# Altium schematic symbol library CustomComponents.SchLib: 107 symbols (part 1 of 2)
Pins are listed as number, name and electrical type; pins without a type are passive.

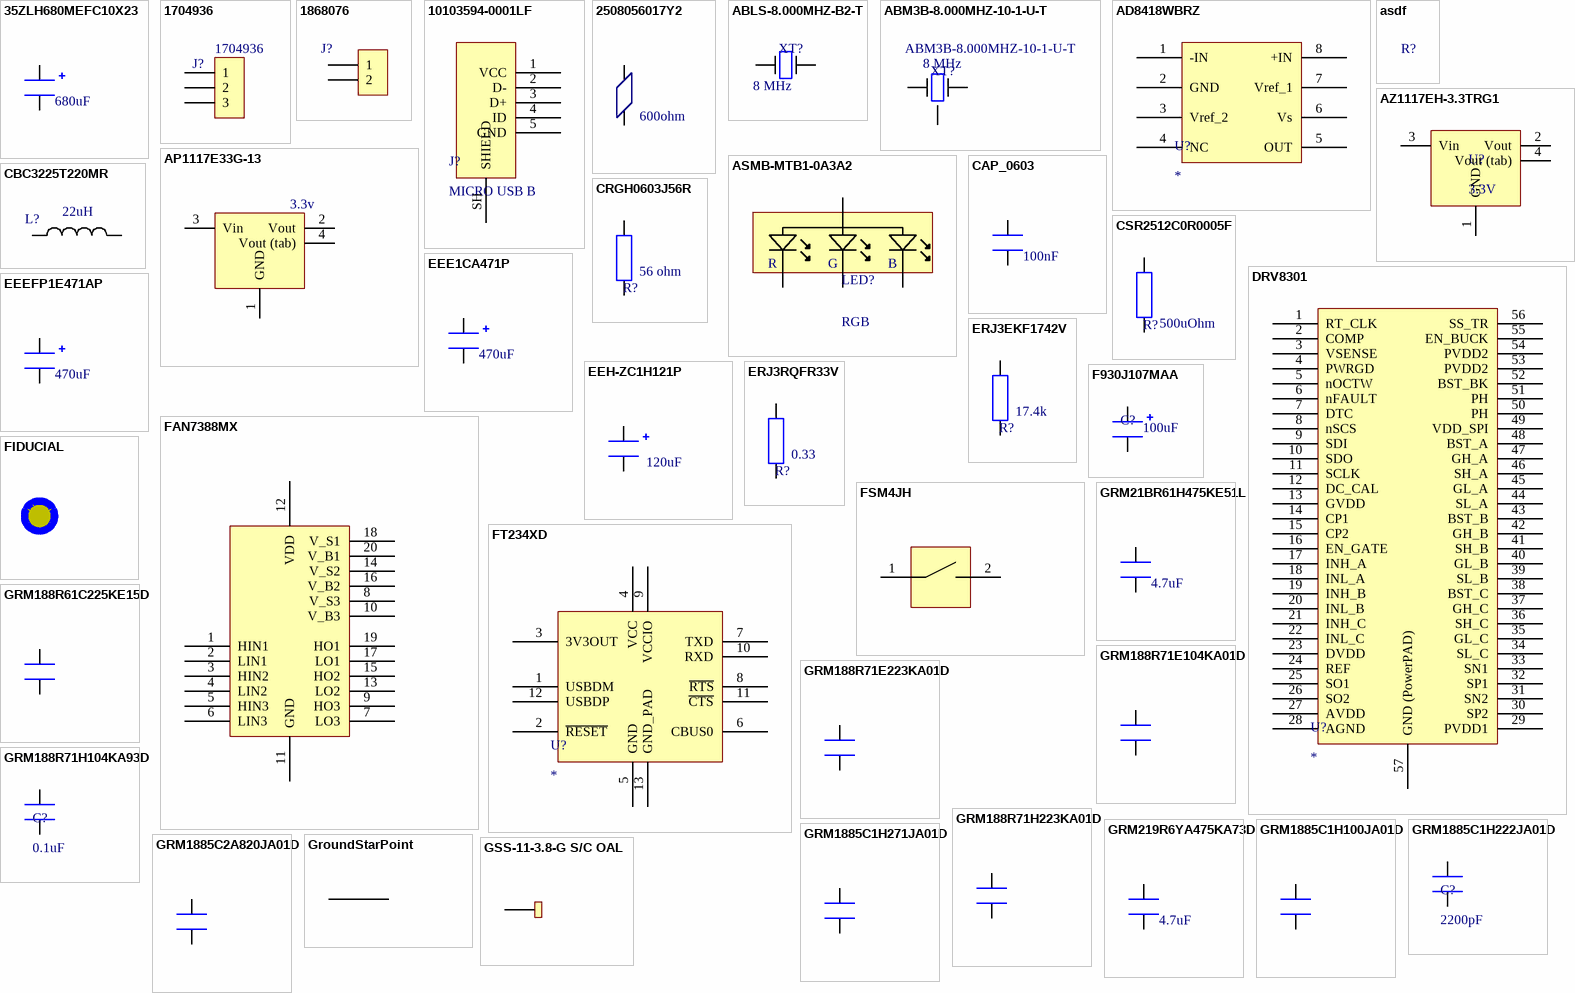
[diagram p0: symbols 35ZLH680MEFC10X23 to GSS-11-3.8-G S/C OAL]

## 35ZLH680MEFC10X23
designator C?  value 680uF
CAP, ALU ELEC, 680UF, 35V, RAD; Supplier 1: Farnell; Supplier Part Number 1: 8126771
footprint CAPE10.0MM_Rad_10x14mm (10mm Pitch Radial Capacitor 10x14mm DxH)
pins: 1, 2

## 1704936
designator J?  Manufacturer Part Number: 1704936  (hidden comment: *)
CONN TERM BLOCK 3POS 7.62MM; Manufacturer: Phoenix Contact; Number of Levels: 1; Positions Per Level: 3; Pitch: 0.300" (7.62mm); Mating Orientation: Horizontal with Board; Current: 30A; Voltage: 300V; Wire Gauge: 10-30 AWG; Wire Termination: Screw - Rising Cage Clamp; Torque - Screw: 0.5-0.6 Nm (4.4-5.3 Lb-In); Screw Thread: M3; Supplier 1: Digi-Key; Supplier Part Number 1: 277-5954-ND; RoHS: RoHS Compliant; Category: Connectors, Interconnects; Stock: 3559; Pricing 1: 1=2.19, 10=2.128, 50=1.989, 100=1.8299, 250=1.69064, 500=1.61108, 1000=1.482 (USD); Packaging: Bulk; Part Status: Active; Mounting Type: Through Hole; Features: Interlocking (Side); Color: Green; Operating Temperature: -; Housing Material: Polyamide (PA), Nylon; Contact Material - Plating: -; Clamp Material - Plating: -; Screw Material - Plating: -; ComponentLink1URL: http://media.digikey.com/PDF/Data%20Sheets/Phoenix%20Contact%20PDFs/1704936.pdf; ComponentLink1Description: http://media.digikey.com/PDF/Data%20Sheets/Phoenix%20Contact%20PDFs/1704936.pdf
footprint 1704936 (CONN TERM BLOCK 3POS 7.62MM)
pins: 1, 2, 3

## 1868076
designator J?  (value not drawn)
CONN TERM BLOCK 2POS 7.62MM; Manufacturer: Phoenix Contact; Number of Levels: 1; Positions Per Level: 2; Pitch: 0.300" (7.62mm); Mating Orientation: Horizontal with Board; Current: 30A; Voltage: 300V; Wire Gauge: 10-30 AWG; Wire Termination: Screw - Rising Cage Clamp; Torque - Screw: 0.5-0.6 Nm (4.4-5.3 Lb-In); Screw Thread: M3; Supplier 1: Digi-Key; Supplier Part Number 1: 277-5840-ND; RoHS: RoHS Compliant; Category: Connectors, Interconnects; Stock: 2175; Pricing 1: 1=1.56, 10=1.517, 50=1.4178, 100=1.3044, 250=1.20512, 500=1.14842, 1000=1.0564 (USD); Packaging: Bulk; Part Status: Active; Mounting Type: Through Hole; Features: Interlocking (Side); Color: Green; Operating Temperature: -; Housing Material: Polyamide (PA), Nylon; Contact Material - Plating: -; Clamp Material - Plating: -; Screw Material - Plating: -; ComponentLink1URL: http://media.digikey.com/PDF/Data%20Sheets/Phoenix%20Contact%20PDFs/1868076.pdf; ComponentLink1Description: http://media.digikey.com/PDF/Data%20Sheets/Phoenix%20Contact%20PDFs/1868076.pdf
footprint 1868076 (CONN TERM BLOCK 2POS 7.62MM)
pins: 1, 2

## 10103594-0001LF
designator J?, comment MICRO USB B
MICRO USB B, RECEPTACLE, SMT, RA, 5WAY; Supplier 1: Farnell; Supplier Part Number 1: 2293752
footprint USB_0103594-0001LF (Micro USB B connector)
pins: 1 VCC, 2 D-, 3 D+, 4 ID, 5 GND, SH SHIELD

## 2508056017Y2
designator L?  value 600ohm
FERRITE BEAD, 0.1OHM, 2A, 0805; Supplier 1: Farnell; Supplier 2: Farnell; Supplier Part Number 1: 1838838; Supplier Part Number 2: 1838838RL
footprint FBC2012N (Ferrite Bead Chip, Body 2.0x1.2mm, 0805, IPC Medium Density)
pins: 1, 2

## ABLS-8.000MHZ-B2-T
designator XT?  value 8 MHz  (hidden comment: *)
Crystal 8.0000MHz 20ppm 18pF 80 Ohm -20°C - 70°C Surface Mount HC49/US
footprint CRYSTAL_HC49-US-SM (SMD Crystal HC49/US-SM package)
pins: 1 IN, 2 OUT

## ABM3B-8.000MHZ-10-1-U-T
designator XT?  value 8 MHz  Manufacturer Part Number: ABM3B-8.000MHZ-10-1-U-T  (hidden comment: *)
Crystal 8MHz ±10ppm 10pF 200 Ohm -10°C ~ 60°C Surface Mount 4-SMD, No Lead (DFN, LCC); Manufacturer: Abracon LLC; Operating Mode: Fundamental; Supplier 1: Digi-Key; Supplier Part Number 1: 535-9721-1-ND; RoHS: RoHS Compliant; Category: Crystals, Oscillators, Resonators; Stock: 35437; Pricing 1: 1=0.69, 10=0.578, 50=0.5198, 100=0.462, 500=0.4389 (USD); Packaging: Cut Tape (CT); Part Status: Active; Type: MHz Crystal; Frequency Stability: ±10ppm; Frequency Tolerance: ±10ppm; Load Capacitance: 10pF; Operating Temperature: -10°C ~ 60°C; Ratings: -; Mounting Type: Surface Mount; Package / Case: 4-SMD, No Lead; Size / Dimension: 0.197" L x 0.126" W (5.00mm x 3.20mm); Height - Seated (Max): 0.043" (1.10mm); ComponentLink1URL: http://www.abracon.com/Resonators/abm3b.pdf; ComponentLink1Description: http://www.abracon.com/Resonators/abm3b.pdf; Supplier 2: Digi-Key; Supplier Part Number 2: 535-9721-2-ND; Pricing 2: 1000=0.336, 3000=0.315, 5000=0.3045, 10000=0.294 (USD)
footprint DFN220P320X110-4N (DFN, 4-Leads, Body 5.00x3.20mm, Pitch 2.20mm, IPC Medium Density)
pins: 1, 3, G

## AD8418WBRZ
designator U?
ANALOG DEVICES Current Sense Amplifier, Bidirectional, 1, 130 µA, NSOIC
footprint SOIC127P600X175-8N (SOIC, 8-Leads, Body 4.90x3.90mm, Pitch 1.27mm, IPC Medium Density)
pins: 1 -IN, 2 GND, 3 Vref_2, 4 NC, 5 OUT, 6 Vs, 7 Vref_1, 8 +IN

## AP1117E33G-13
designator U?  value 3.3v
IC, LDO, REG, 3.3V, SOT223; Supplier 1: Farnell; Supplier 2: Farnell; Supplier Part Number 1: 1825291RL; Supplier Part Number 2: 1825291
footprint SOT223 (SOT223 /SC-73)
pins: 1 GND, 2 Vout, 3 Vin, 4 Vout (tab)

## asdf
designator R?
Supplier 1: Digi-Key; Supplier Part Number 1: 311-1.00KHRCT-ND

## ASMB-MTB1-0A3A2
designator LED?, comment RGB
LED, HB, RGB, 0.09W, PLCC-4; Supplier 1: Farnell; Supplier Part Number 1: 2401106
footprint ASMB-MTB1
pins: 1 R, 2 G, 3 B, 4 A

## AZ1117EH-3.3TRG1
designator U?, comment 3.3V
IC REG LDO 3.3V 1A SOT223; Manufacturer: Diodes Incorporated; Regulator Topology: Positive Fixed; Voltage - Dropout (Typical): 1.1V @ 1A; Voltage - Input: Up to 13V; Supplier 1: Digi-Key; Supplier Part Number 1: AZ1117EH-3.3TRG1DICT-ND; RoHS: RoHS Compliant; Category: Integrated Circuits (ICs); Stock 1: 22748; Pricing 1: 1=0.43, 10=0.321, 100=0.1815, 500=0.12022, 1000=0.09216 (USD); Packaging: Cut Tape (CT); Part Status: Active; Voltage - Output: 3.3V; Current - Output: 1A; Current - Limit (Min): -; Operating Temperature: -40°C ~ 125°C; Mounting Type: Surface Mount; Package / Case: TO-261-4, TO-261AA; Supplier Device Package: SOT-223; ComponentLink1URL: http://www.diodes.com/assets/Datasheets/AZ1117E.pdf; ComponentLink1Description: http://www.diodes.com/assets/Datasheets/AZ1117E.pdf
footprint SOT223 (SOT223 /SC-73)
pins: 1 GND, 2 Vout, 3 Vin, 4 Vout (tab)

## CAP_0603
designator C?, comment value 100nF  (hidden comment: General 0603 capacitor)
CAP General 0603
footprint 1608[0603] (Chip Capacitor, Body 1.6x0.8mm, IPC High Density)
pins: 1, 2

## CBC3225T220MR
designator L?  value 22uH  (hidden comment: CBC3225T220MR)
Inductor 22uH, 780 ma, 351 mohm, 1210; Supplier 1: Digi-Key; Supplier Part Number 1: 587-1626-1-ND; Supplier 2: Mouser; Supplier Part Number 2: 963-CBC3225T220MR; Supplier 3: Farnell; Supplier Part Number 3: 2309152
pins: 1, 2

## CRGH0603J56R
designator R?  value 56 ohm
RESISTOR, POWER, 56R, 0.2W, 5%, 0603; Supplier 1: Farnell; Supplier 2: Farnell; Supplier Part Number 1: 2331709; Supplier Part Number 2: 2331709RL
footprint RESC1608X55N (Chip Resistor, Body 1.6x0.8mm, EIA 0603, IPC Medium Density)
pins: 1 0, 2 0

## CSR2512C0R0005F
designator R?  value 500uOhm  (hidden comment: CSR2512C0R0005F)
RES SMD 0.0005 OHM 1% 3W 2512; Manufacturer: Riedon; Temperature Coefficient: ±100ppm/°C; Supplier 1: Digi-Key; Supplier Part Number 1: 696-1183-2-ND; RoHS: RoHS Compliant; Category: Resistors; Stock: 2000; Pricing 1: 2000=0.19817, 6000=0.1937, 10000=0.187, 50000=0.18148 (USD); Packaging: Tape & Reel (TR); Part Status: Active; Tolerance: ±1%; Power (Watts): 3W; Composition: Metal Element; Features: Current Sense; Operating Temperature: -55°C ~ 170°C; Package / Case: 2512 (6432 Metric); Supplier Device Package: 2512; Size / Dimension: 0.250" L x 0.118" W (6.35mm x 3.00mm); Height - Seated (Max): 0.057" (1.45mm); Failure Rate: -; ComponentLink1URL: http://riedon.com/media/pdf/CSR.pdf; ComponentLink1Description: http://riedon.com/media/pdf/CSR.pdf; Supplier 2: Digi-Key; Supplier Part Number 2: 696-1183-1-ND; Pricing 2: 1=0.69, 10=0.574, 25=0.4916, 50=0.4426, 100=0.3852, 250=0.3442, 500=0.27864, 1000=0.22536 (USD); Manufacturer Part Number: CSR2512C0R0005F
footprint RESC6432X09N (Chip Resistor, 2-Leads, Body 6.40x3.20mm, IPC Medium Density)
pins: 1 0, 2 0

## DRV8301
designator U?
MOTOR DRIVER, 3PH, 56HTSSOP
footprint TSSOP50P810X120_HS-57N (TSSOP, 56-Leads, Body 14.00x6.10mm, Pitch 0.50mm, Thermal Pad 6.35x3.61mm, IPC Medium Density)
pins: 1 RT_CLK, 2 COMP, 3 VSENSE, 4 PWRGD, 5 nOCTW, 6 nFAULT, 7 DTC, 8 nSCS, 9 SDI, 10 SDO, 11 SCLK, 12 DC_CAL, 13 GVDD, 14 CP1, 15 CP2, 16 EN_GATE, 17 INH_A, 18 INL_A, 19 INH_B, 20 INL_B, 21 INH_C, 22 INL_C, 23 DVDD, 24 REF, 25 SO1, 26 SO2, 27 AVDD, 28 AGND, 29 PVDD1, 30 SP2, 31 SN2, 32 SP1, 33 SN1, 34 SL_C, 35 GL_C, 36 SH_C, 37 GH_C, 38 BST_C, 39 SL_B, 40 GL_B, 41 SH_B, 42 GH_B, 43 BST_B, 44 SL_A, 45 GL_A, 46 SH_A, 47 GH_A, 48 BST_A, 49 VDD_SPI, 50 PH, 51 PH, 52 BST_BK, 53 PVDD2, 54 PVDD2, 55 EN_BUCK, 56 SS_TR, 57 GND (PowerPAD)

## EEE1CA471P
designator C?  value 470uF
CAP, ALU ELEC, 470UF, 16V, SMD; Supplier 1: Farnell; Supplier Part Number 1: 2326123RL; Supplier 2: Farnell; Supplier Part Number 2: 2326123
simulation model CAP (Capacitor)
signal-integrity model Cap
footprint CAP_ELEC_SIZE_G (Capacitor, polarized, aluminum can; 10.0x10.2mm DxH)
pins: 1, 2

## EEEFP1E471AP
designator C?  value 470uF
CAP, FP Series, 470 µF, 25 V, Radial Can - SMD, 10 mm; Manufacturer: Panasonic Electronic Components; Manufacturer Part Number: EEE-FP1E471AP; Tolerance: ±20%; ESR (Equivalent Series Resistance): 60 mOhm @ 100kHz; Lifetime @ Temp.: 2000 Hrs @ 105°C; Polarization: Polar; Ripple Current - Low Frequency: 773.5mA @ 120Hz; Ripple Current - High Frequency: 1.19A @ 100kHz; Surface Mount Land Size: 0.406" L x 0.406" W (10.30mm x 10.30mm); Supplier 1: Digi-Key; Supplier Part Number 1: PCE4440TR-ND; RoHS: RoHS Compliant; Category: Capacitors; Stock: 8000; Pricing 1: 500=0.3571, 1000=0.30072, 2500=0.28192, 5000=0.26313, 12500=0.24997, 25000=0.24434 (USD); Packaging: Tape & Reel (TR); Part Status: Active; Operating Temperature: -55°C ~ 105°C; Applications: Automotive; Lead Spacing: -; Size / Dimension: 0.394" Dia (10.00mm); Height - Seated (Max): 0.402" (10.20mm); Mounting Type: Surface Mount; Package / Case: Radial, Can - SMD; ComponentLink1URL: http://industrial.panasonic.com/www-cgi/jvcr13pz.cgi?E+PZ+3+ABA0114+EEEFP1E471AP+7+WW; ComponentLink1Description: http://industrial.panasonic.com/www-cgi/jvcr13pz.cgi?E+PZ+3+ABA0114+EEEFP1E471AP+7+WW; Supplier 2: Digi-Key; Supplier Part Number 2: PCE4440CT-ND; Pricing 2: 1=0.92, 10=0.702, 100=0.5025 (USD)
footprint CAP_ELEC_SIZE_G (Capacitor, polarized, aluminum can; 10.0x10.2mm DxH)
pins: 1, 2

## EEH-ZC1H121P
designator C?, comment 120uF
CAP ALUM POLY HYB 120UF 50V SMD; Manufacturer: Panasonic Electronic Components; Manufacturer Part Number: EEH-ZC1H121P; Type: Hybrid; Tolerance: ±20%; ESR (Equivalent Series Resistance): 28 mOhm; Lifetime @ Temp.: 4000 Hrs @ 125°C; Ripple Current - Low Frequency: 240mA @ 100Hz; Ripple Current - High Frequency: 1.6A @ 100kHz; Surface Mount Land Size: 0.406" L x 0.406" W (10.30mm x 10.30mm); Supplier 1: Digi-Key; Supplier Part Number 1: P19316CT-ND; RoHS: RoHS Compliant; Category: Capacitors; Stock: 1939; Pricing 1: 1=2.18, 10=1.761, 100=1.345 (USD); Packaging: Cut Tape (CT); Part Status: Active; Operating Temperature: -55°C ~ 125°C; Applications: Automotive; Lead Spacing: -; Size / Dimension: 0.394" Dia (10.00mm); Height - Seated (Max): 0.413" (10.50mm); Mounting Type: Surface Mount; Package / Case: Radial, Can - SMD; ComponentLink1URL: https://industrial.panasonic.com/cdbs/www-data/pdf/RDD0000/ABA0000C1234.pdf; ComponentLink1Description: https://industrial.panasonic.com/cdbs/www-data/pdf/RDD0000/ABA0000C1234.pdf; Supplier 2: Digi-Key; Supplier Part Number 2: P19316TR-ND; Pricing 2: 500=0.89108, 1000=0.77969, 2500=0.75184, 5000=0.724, 12500=0.72134 (USD); Capacitance: 120uF
footprint CAP_ELEC_SIZE_G (Capacitor, polarized, aluminum can; 10.0x10.2mm DxH)
pins: 1, 2

## ERJ3EKF1742V
designator R?  value 17.4k
RESISTOR, 0603, 17K4 1%, 0.1W; Supplier 1: Farnell; Supplier 2: Farnell; Supplier Part Number 1: 2059427RL; Supplier Part Number 2: 2059427
footprint RESC1608X55N (Chip Resistor, Body 1.6x0.8mm, EIA 0603, IPC Medium Density)
pins: 1 0, 2 0

## ERJ3RQFR33V
designator R?  value 0.33
RESISTOR, 0603, 0.1W, 1%, 0R33; Supplier 1: Farnell; Supplier Part Number 1: 1717766RL; Supplier 2: Farnell; Supplier Part Number 2: 1717766
footprint RESC1608X55N (Chip Resistor, Body 1.6x0.8mm, EIA 0603, IPC Medium Density)
pins: 1 0, 2 0

## F930J107MAA
designator C?  value 100uF  (hidden comment: F930J107MAA)
CAP TANT 100UF 6.3V 20% 1206 2Ohm
footprint CAP_POL_1206 (Chip Capacitor, 2-Leads, Body 3.20x1.60mm, IPC Medium Density)
pins: 1, 2

## FAN7388MX
designator U?
MOSFET DRIVER, 3 HALF BRIDGE; Supplier 1: Farnell; Supplier Part Number 1: 2083876
footprint SOIC_20
pins: 1 HIN1, 2 LIN1, 3 HIN2, 4 LIN2, 5 HIN3, 6 LIN3, 7 LO3, 8 V_S3, 9 HO3, 10 V_B3, 11 GND, 12 VDD, 13 LO2, 14 V_S2, 15 HO2, 16 V_B2, 17 LO1, 18 V_S1, 19 HO1, 20 V_B1

## FIDUCIAL
designator FID?
1mm Fiducial with 2mm soldermask, 3mm keepout
footprint FIDUCIAL (1mm fiducial with 3mm keepout)

## FSM4JH
designator SW?
SWITCH, SPNO, 0.05A; Supplier 1: Farnell; Supplier Part Number 1: 1555982
footprint FSM4JH (SWITCH, SPNO, 0.05A)
pins: 1, 2

## FT234XD
designator U?
Supplier 1: Farnell; Supplier Part Number 1: 2419911
footprint SON45P300X90_HS-13N (SON, 12-Leads, Body 3.00x3.00mm, Pitch 0.45mm, Thermal Pad 2.48x1.58mm, IPC Medium Density)
pins: 1 USBDM, 2 ~{RESET}, 3 3V3OUT, 4 VCC, 5 GND, 6 CBUS0, 7 TXD, 8 ~{RTS}, 9 VCCIO, 10 RXD, 11 ~{CTS}, 12 USBDP, 13 GND_PAD

## GRM21BR61H475KE51L
designator C?  value 4.7uF  (hidden comment: *)
CAP CER 4.7UF 50V X5R 0805; Manufacturer: Murata Electronics North America; Manufacturer Part Number: GRM21BR61H475KE51L; Tolerance: ±10%; Supplier 1: Digi-Key; Supplier Part Number 1: 490-10751-2-ND; RoHS: RoHS Compliant; Category: Capacitors; Stock: 15000; Pricing 1: 3000=0.08404, 6000=0.07774, 9000=0.07354 (USD); Packaging: Tape & Reel (TR); Part Status: Active; Voltage - Rated: 50V; Temperature Coefficient: X5R; Operating Temperature: -55°C ~ 85°C; Features: -; Ratings: -; Applications: General Purpose; Mounting Type: Surface Mount, MLCC; Package / Case: 0805 (2012 Metric); Size / Dimension: 0.079" L x 0.049" W (2.00mm x 1.25mm); Height - Seated (Max): -; Thickness (Max): 0.055" (1.40mm); Lead Spacing: -; Lead Style: -; ComponentLink1URL: http://search.murata.co.jp/Ceramy/image/img/A01X/G101/ENG/GRM21BR61H475KE51-01.pdf; ComponentLink1Description: http://search.murata.co.jp/Ceramy/image/img/A01X/G101/ENG/GRM21BR61H475KE51-01.pdf; Supplier 2: Digi-Key; Supplier Part Number 2: 490-10751-1-ND; Pricing 2: 1=0.35, 10=0.242, 100=0.145, 500=0.10872, 1000=0.09181 (USD)
footprint CAPC2012X09N (Chip Capacitor, 2-Leads, Body 2.00x1.25mm, IPC Medium Density)
pins: 1, 2

## GRM188R61C225KE15D
designator C?, comment 2.2µF
CAP CER 2.2UF 16V X5R 0603; Manufacturer: Murata Electronics North America; Manufacturer Part Number: GRM188R61C225KE15D; Tolerance: ±10%; Supplier 1: Digi-Key; Supplier Part Number 1: 490-3296-1-ND; RoHS: RoHS Compliant; Category: Capacitors; Stock 1: 1255740; Pricing 1: 1=0.12, 10=0.08, 50=0.046, 100=0.038, 250=0.032, 500=0.0268, 1000=0.022 (USD); Packaging: Cut Tape (CT); Capacitance: 2.2µF; Voltage - Rated: 16V; Temperature Coefficient: X5R; Mounting Type: Surface Mount, MLCC; Operating Temperature: -55°C ~ 85°C; Applications: General Purpose; Ratings: -; Package / Case: 0603 (1608 Metric); Size / Dimension: 0.063" L x 0.031" W (1.60mm x 0.80mm); Height - Seated (Max): -; Thickness (Max): 0.035" (0.90mm); Lead Spacing: -; Features: -; Lead Style: -; ComponentLink1URL: http://www.murata.com/~/media/webrenewal/support/library/catalog/products/capacitor/mlcc/c02e.pdf; ComponentLink1Description: http://www.murata.com/~/media/webrenewal/support/library/catalog/products/capacitor/mlcc/c02e.pdf
footprint CAPC1608X09L (Chip Capacitor, 2-Leads, Body 1.60x0.80mm, IPC High Density)
pins: 1, 2

## GRM188R71E104KA01D
designator C?, comment 0.10µF
CAP CER 0.1UF 25V X7R 0603; Manufacturer: Murata Electronics North America; Manufacturer Part Number: GRM188R71E104KA01D; Tolerance: ±10%; Supplier 1: Digi-Key; Supplier Part Number 1: 490-1524-1-ND; RoHS: RoHS Compliant; Category: Capacitors; Stock 1: 1667481; Pricing 1: 1=0.1, 10=0.019, 50=0.0104, 100=0.0088, 250=0.0072, 500=0.00616, 1000=0.0048 (USD); Packaging: Cut Tape (CT); Capacitance: 0.10µF; Voltage - Rated: 25V; Temperature Coefficient: X7R; Mounting Type: Surface Mount, MLCC; Operating Temperature: -55°C ~ 125°C; Applications: General Purpose; Ratings: -; Package / Case: 0603 (1608 Metric); Size / Dimension: 0.063" L x 0.031" W (1.60mm x 0.80mm); Height - Seated (Max): -; Thickness (Max): 0.035" (0.90mm); Lead Spacing: -; Features: -; Lead Style: -; ComponentLink1URL: http://www.murata.com/~/media/webrenewal/support/library/catalog/products/capacitor/mlcc/c02e.pdf; ComponentLink1Description: http://www.murata.com/~/media/webrenewal/support/library/catalog/products/capacitor/mlcc/c02e.pdf; Supplier 2: Digi-Key; Supplier Part Number 2: 490-1519-1-ND; Stock: 19859736; Pricing 2: 1=0.12, 10=0.084, 100=0.0396, 500=0.02778, 1000=0.023 (USD); Part Status: Active; ComponentLink2URL: http://www.murata.com/~/media/webrenewal/support/library/catalog/products/capacitor/mlcc/c02e.ashx?la=en-us; ComponentLink2Description: http://www.murata.com/~/media/webrenewal/support/library/catalog/products/capacitor/mlcc/c02e.ashx?la=en-us
footprint CAPC1608X09L (Chip Capacitor, 2-Leads, Body 1.60x0.80mm, IPC High Density)
pins: 1, 2

## GRM188R71E223KA01D
designator C?, comment 0.022µF
CAP CER 0.022UF 25V X7R 0603; Manufacturer: Murata Electronics North America; Manufacturer Part Number: GRM188R71E223KA01D; Tolerance: ±10%; Supplier 1: Digi-Key; Supplier Part Number 1: 490-9761-1-ND; RoHS: RoHS Compliant; Category: Capacitors; Stock 1: 26666; Pricing 1: 1=0.1, 10=0.061, 50=0.0332, 100=0.0281, 250=0.02296, 500=0.01964, 1000=0.0153 (USD); Packaging: Cut Tape (CT); Capacitance: 0.022µF; Voltage - Rated: 25V; Temperature Coefficient: X7R; Mounting Type: Surface Mount, MLCC; Operating Temperature: -55°C ~ 125°C; Applications: General Purpose; Ratings: -; Package / Case: 0603 (1608 Metric); Size / Dimension: 0.063" L x 0.031" W (1.60mm x 0.80mm); Height - Seated (Max): -; Thickness (Max): 0.035" (0.90mm); Lead Spacing: -; Features: -; Lead Style: -; ComponentLink1URL: http://www.murata.com/~/media/webrenewal/support/library/catalog/products/capacitor/mlcc/c02e.pdf; ComponentLink1Description: http://www.murata.com/~/media/webrenewal/support/library/catalog/products/capacitor/mlcc/c02e.pdf
footprint CAPC1608X09L (Chip Capacitor, 2-Leads, Body 1.60x0.80mm, IPC High Density)
pins: 1, 2

## GRM188R71H104KA93D
designator C?, comment 0.1uF
CAP CER 0.1UF 50V X7R 0603; Manufacturer: Murata Electronics North America; Manufacturer Part Number: GRM188R71H104KA93D; Tolerance: ±10%; Supplier 1: Digi-Key; Supplier Part Number 1: 490-1519-2-ND; RoHS: RoHS Compliant; Category: Capacitors; Stock: 19812000; Pricing 1: 4000=0.01822, 8000=0.01663, 12000=0.01584 (USD); Packaging: Tape & Reel (TR); Part Status: Active; Voltage - Rated: 50V; Temperature Coefficient: X7R; Operating Temperature: -55°C ~ 125°C; Features: -; Ratings: -; Applications: General Purpose; Mounting Type: Surface Mount, MLCC; Package / Case: 0603 (1608 Metric); Size / Dimension: 0.063" L x 0.032" W (1.60mm x 0.80mm); Height - Seated (Max): -; Thickness (Max): 0.035" (0.90mm); Lead Spacing: -; Lead Style: -; ComponentLink1URL: http://www.murata.com/~/media/webrenewal/support/library/catalog/products/capacitor/mlcc/c02e.ashx?la=en-us; ComponentLink1Description: http://www.murata.com/~/media/webrenewal/support/library/catalog/products/capacitor/mlcc/c02e.ashx?la=en-us; Supplier 2: Digi-Key; Supplier Part Number 2: 490-1519-1-ND; Pricing 2: 1=0.12, 10=0.084, 100=0.0396, 500=0.02778, 1000=0.023 (USD); Capacitance: 0.1uF
footprint CAPC1608X09L (Chip Capacitor, 2-Leads, Body 1.60x0.80mm, IPC High Density)
pins: 1, 2

## GRM188R71H223KA01D
designator C?, comment 0.022µF
CAP CER 0.022UF 50V X7R 0603; Manufacturer: Murata Electronics North America; Manufacturer Part Number: GRM188R71H223KA01D; Tolerance: ±10%; Capacitance: 0.022µF; Supplier 1: Digi-Key; Supplier Part Number 1: 490-1517-2-ND; RoHS: RoHS Compliant; Category: Capacitors; Stock: 608000; Pricing 1: 4000=0.01518, 8000=0.01386, 12000=0.0132 (USD); Packaging: Tape & Reel (TR); Part Status: Active; Voltage - Rated: 50V; Temperature Coefficient: X7R; Operating Temperature: -55°C ~ 125°C; Features: -; Ratings: -; Applications: General Purpose; Mounting Type: Surface Mount, MLCC; Package / Case: 0603 (1608 Metric); Size / Dimension: 0.063" L x 0.032" W (1.60mm x 0.80mm); Height - Seated (Max): -; Thickness (Max): 0.035" (0.90mm); Lead Spacing: -; Lead Style: -; ComponentLink1URL: http://search.murata.co.jp/Ceramy/image/img/A01X/G101/ENG/GRM188R71H223KA01-01.pdf; ComponentLink1Description: http://search.murata.co.jp/Ceramy/image/img/A01X/G101/ENG/GRM188R71H223KA01-01.pdf; Supplier 2: Digi-Key; Supplier Part Number 2: 490-1517-1-ND; Pricing 2: 1=0.11, 10=0.083, 100=0.0372, 500=0.02656, 1000=0.02087 (USD)
footprint CAPC1608X09L (Chip Capacitor, 2-Leads, Body 1.60x0.80mm, IPC High Density)
pins: 1, 2

## GRM219R6YA475KA73D
designator C?  value 4.7uF  (hidden comment: *)
CAP CER 4.7UF 35V X5R 0805; Manufacturer: Murata Electronics North America; Manufacturer Part Number: GRM219R6YA475KA73D; Tolerance: ±10%; Supplier 1: Digi-Key; Supplier Part Number 1: 490-7208-2-ND; RoHS: RoHS Compliant; Category: Capacitors; Stock: 152000; Pricing 1: 4000=0.05126, 8000=0.0487, 12000=0.04613 (USD); Packaging: Tape & Reel (TR); Part Status: Active; Voltage - Rated: 35V; Temperature Coefficient: X5R; Operating Temperature: -55°C ~ 85°C; Features: Derating Recommended; Ratings: -; Applications: General Purpose; Mounting Type: Surface Mount, MLCC; Package / Case: 0805 (2012 Metric); Size / Dimension: 0.079" L x 0.049" W (2.01mm x 1.25mm); Height - Seated (Max): -; Thickness (Max): 0.037" (0.95mm); Lead Spacing: -; Lead Style: -; ComponentLink1URL: http://www.murata.com/~/media/webrenewal/support/library/catalog/products/capacitor/mlcc/c02e.ashx?la=en-us; ComponentLink1Description: http://www.murata.com/~/media/webrenewal/support/library/catalog/products/capacitor/mlcc/c02e.ashx?la=en-us; Supplier 2: Digi-Key; Supplier Part Number 2: 490-7208-1-ND; Pricing 2: 1=0.26, 10=0.177, 100=0.1002, 500=0.07076, 1000=0.06191 (USD)
footprint CAPC2012X09N (Chip Capacitor, 2-Leads, Body 2.00x1.25mm, IPC Medium Density)
pins: 1, 2

## GRM1885C1H100JA01D
designator C?, comment 10pF
CAP CER 10PF 50V NP0 0603; Manufacturer: Murata Electronics North America; Manufacturer Part Number: GRM1885C1H100JA01D; Tolerance: ±5%; Temperature Coefficient: C0G, NP0; Supplier 1: Digi-Key; Supplier Part Number 1: 490-1403-1-ND; RoHS: RoHS Compliant; Category: Capacitors; Stock 1: 450321; Pricing 1: 1=0.1, 10=0.041, 50=0.0222, 100=0.0187, 250=0.01532, 500=0.0131, 1000=0.0102 (USD); Packaging: Cut Tape (CT); Capacitance: 10pF; Voltage - Rated: 50V; Mounting Type: Surface Mount, MLCC; Operating Temperature: -55°C ~ 125°C; Applications: General Purpose; Ratings: -; Package / Case: 0603 (1608 Metric); Size / Dimension: 0.063" L x 0.031" W (1.60mm x 0.80mm); Height - Seated (Max): -; Thickness (Max): 0.035" (0.90mm); Lead Spacing: -; Features: -; Lead Style: -; ComponentLink1URL: http://www.murata.com/~/media/webrenewal/support/library/catalog/products/capacitor/mlcc/c02e.pdf; ComponentLink1Description: http://www.murata.com/~/media/webrenewal/support/library/catalog/products/capacitor/mlcc/c02e.pdf
footprint CAPC1608X09L (Chip Capacitor, 2-Leads, Body 1.60x0.80mm, IPC High Density)
pins: 1, 2

## GRM1885C1H222JA01D
designator C?, comment 2200pF
CAP CER 2200PF 50V NP0 0603; Manufacturer: Murata Electronics North America; Tolerance: ±5%; Temperature Coefficient: C0G, NP0; Supplier 1: Digi-Key; Supplier Part Number 1: 490-1459-1-ND; RoHS: RoHS Compliant; Category: Capacitors; Stock 1: 850589; Pricing 1: 1=0.11, 10=0.08, 25=0.058, 50=0.0434, 100=0.0355, 250=0.02972, 500=0.02536, 1000=0.01992 (USD); Packaging: Cut Tape (CT); Part Status: Active; Capacitance: 2200pF; Voltage - Rated: 50V; Operating Temperature: -55°C ~ 125°C; Features: -; Ratings: -; Applications: General Purpose; Mounting Type: Surface Mount, MLCC; Package / Case: 0603 (1608 Metric); Size / Dimension: 0.063" L x 0.031" W (1.60mm x 0.80mm); Height - Seated (Max): -; Thickness (Max): 0.035" (0.90mm); Lead Spacing: -; Lead Style: -; ComponentLink1URL: http://www.murata.com/~/media/webrenewal/support/library/catalog/products/capacitor/mlcc/c02e.ashx; ComponentLink1Description: http://www.murata.com/~/media/webrenewal/support/library/catalog/products/capacitor/mlcc/c02e.ashx
footprint CAPC1608X09L (Chip Capacitor, 2-Leads, Body 1.60x0.80mm, IPC High Density)
pins: 1, 2

## GRM1885C1H271JA01D
designator C?, comment 270pF
CAP CER 270PF 50V NP0 0603; Manufacturer: Murata Electronics North America; Manufacturer Part Number: GRM1885C1H271JA01D; Tolerance: ±5%; Temperature Coefficient: C0G, NP0; Supplier 1: Digi-Key; Supplier Part Number 1: 490-1437-1-ND; RoHS: RoHS Compliant; Category: Capacitors; Stock 1: 46048; Pricing 1: 1=0.1, 10=0.048, 50=0.026, 100=0.022, 250=0.018, 500=0.0154, 1000=0.012 (USD); Packaging: Cut Tape (CT); Capacitance: 270pF; Voltage - Rated: 50V; Mounting Type: Surface Mount, MLCC; Operating Temperature: -55°C ~ 125°C; Applications: General Purpose; Ratings: -; Package / Case: 0603 (1608 Metric); Size / Dimension: 0.063" L x 0.031" W (1.60mm x 0.80mm); Height - Seated (Max): -; Thickness (Max): 0.035" (0.90mm); Lead Spacing: -; Features: -; Lead Style: -; ComponentLink1URL: http://www.murata.com/~/media/webrenewal/support/library/catalog/products/capacitor/mlcc/c02e.pdf; ComponentLink1Description: http://www.murata.com/~/media/webrenewal/support/library/catalog/products/capacitor/mlcc/c02e.pdf
footprint CAPC1608X09L (Chip Capacitor, 2-Leads, Body 1.60x0.80mm, IPC High Density)
pins: 1, 2

## GRM1885C2A820JA01D
designator C?, comment 82pF
CAP CER 82PF 100V NP0 0603; Manufacturer: Murata Electronics North America; Manufacturer Part Number: GRM1885C2A820JA01D; Tolerance: ±5%; Temperature Coefficient: C0G, NP0; Supplier 1: Digi-Key; Supplier Part Number 1: 490-1349-1-ND; RoHS: RoHS Compliant; Category: Capacitors; Stock 1: 58970; Pricing 1: 1=0.1, 10=0.052, 50=0.028, 100=0.0237, 250=0.01936, 500=0.01656, 1000=0.0129 (USD); Packaging: Cut Tape (CT); Capacitance: 82pF; Voltage - Rated: 100V; Mounting Type: Surface Mount, MLCC; Operating Temperature: -55°C ~ 125°C; Applications: General Purpose; Ratings: -; Package / Case: 0603 (1608 Metric); Size / Dimension: 0.063" L x 0.031" W (1.60mm x 0.80mm); Height - Seated (Max): -; Thickness (Max): 0.035" (0.90mm); Lead Spacing: -; Features: -; Lead Style: -; ComponentLink1URL: http://www.murata.com/~/media/webrenewal/support/library/catalog/products/capacitor/mlcc/c02e.pdf; ComponentLink1Description: http://www.murata.com/~/media/webrenewal/support/library/catalog/products/capacitor/mlcc/c02e.pdf
footprint CAPC1608X09L (Chip Capacitor, 2-Leads, Body 1.60x0.80mm, IPC High Density)
pins: 1, 2

## GroundStarPoint
designator SP?, comment Star Point  (net tie, no BOM)
Wide star point meant for joining ground planes
footprint StarpointWide (Wide star point meant for connecting ground planes)
pins: 1, 2

## GSS-11-3.8-G S/C OAL
designator TP?
Contact Probes 90 Degree Cone Shape; Manufacturer: Smiths Connectors / IDI; Manufacturer Part Number: GSS-11-3.8-G S/C OAL; Current Rating: 3 A; Resistance: 30 mOhms; Travel: 1.27 mm; Spring Force: 3.8 oz; Spring Material: Stainless Steel; Tip Style: Conical; Supplier 1: Mouser; Supplier Part Number 1: 818-GSS-11-3.8-G; RoHS: RoHS Compliant; Category: Contact Probes; Stock 1: 6036; Pricing 1: 1=0.900, 25=0.810, 50=0.790, 100=0.750, 200=0.658, 500=0.648 (USD); Length: 8.76 mm; Series: GSS; Type: Probes; Brand: Smiths Connectors / IDI; Standard Pack Qty: 100; RoHS - Mouser: Y; Minimum Order Quantity: 1; Reeling: False; ComponentLink1URL: http://www.mouser.com/ds/2/193/68_69-3197.pdf; ComponentLink1Description: http://www.mouser.com/ds/2/193/68_69-3197.pdf
footprint GSS-11-3.8-G (Contact Probe)
pins: 1

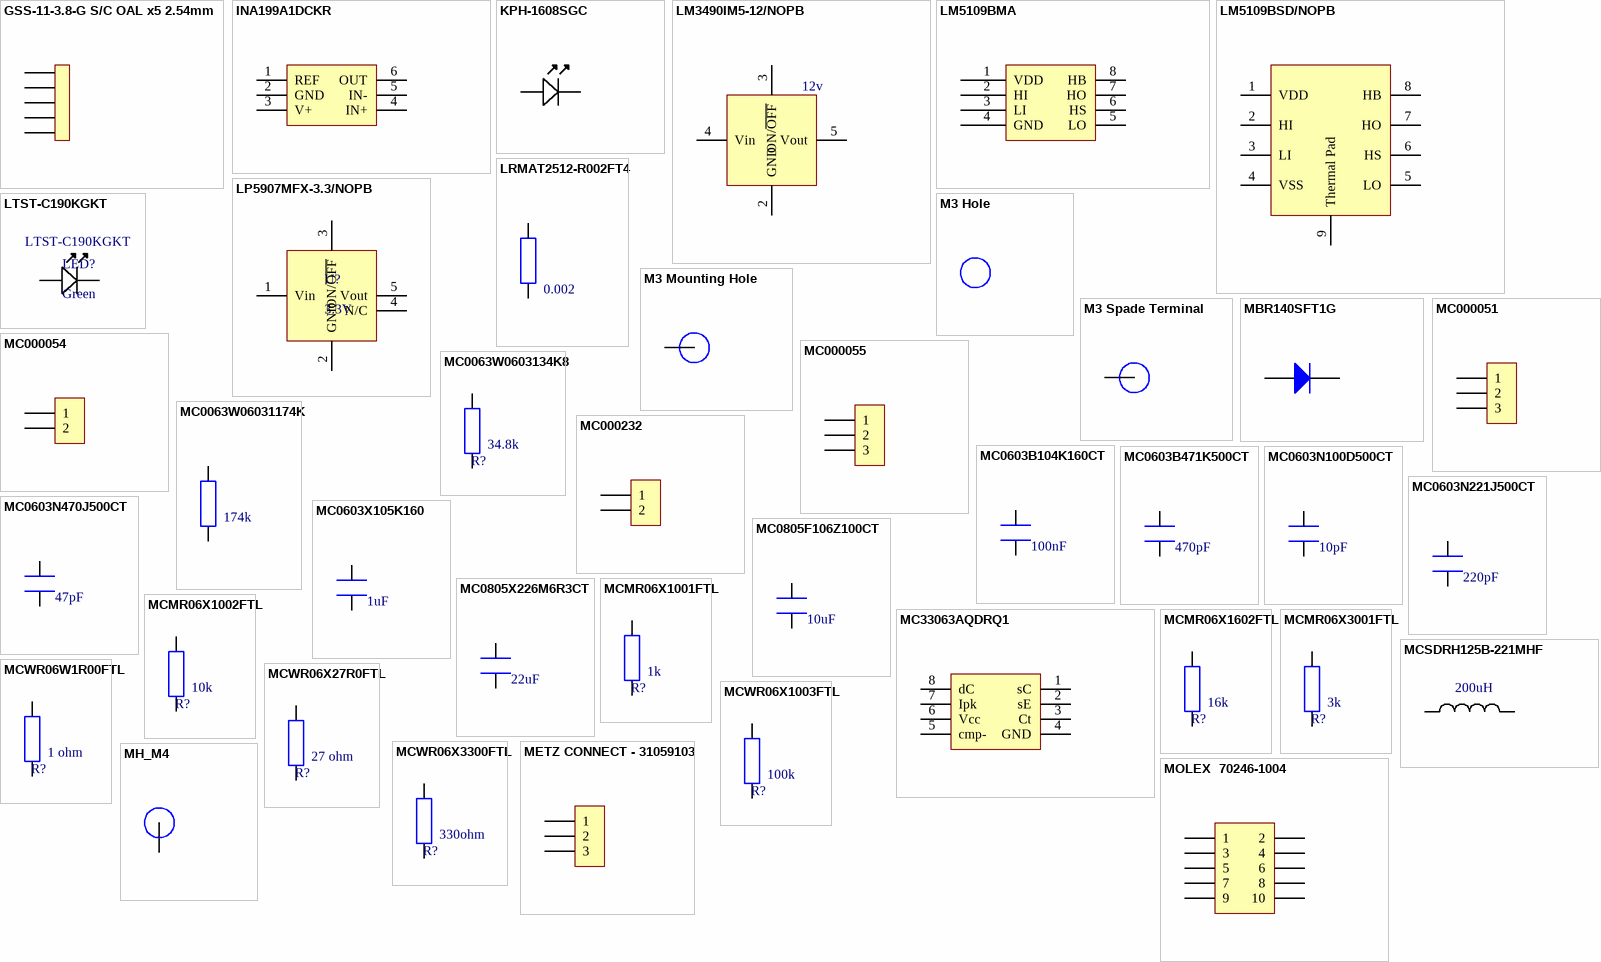
[diagram p1: symbols GSS-11-3.8-G S/C OAL x5 2.54mm to MOLEX  70246-1004]

## GSS-11-3.8-G S/C OAL x5 2.54mm
designator TP?
Contact Probes 90 Degree Cone Shape; Manufacturer: Smiths Connectors / IDI; Manufacturer Part Number: GSS-11-3.8-G S/C OAL; Current Rating: 3 A; Resistance: 30 mOhms; Travel: 1.27 mm; Spring Force: 3.8 oz; Spring Material: Stainless Steel; Tip Style: Conical; Supplier 1: Mouser; Supplier Part Number 1: 818-GSS-11-3.8-G; RoHS: RoHS Compliant; Category: Contact Probes; Stock 1: 6036; Pricing 1: 1=0.900, 25=0.810, 50=0.790, 100=0.750, 200=0.658, 500=0.648 (USD); Length: 8.76 mm; Series: GSS; Type: Probes; Brand: Smiths Connectors / IDI; Standard Pack Qty: 100; RoHS - Mouser: Y; Minimum Order Quantity: 1; Reeling: False; ComponentLink1URL: http://www.mouser.com/ds/2/193/68_69-3197.pdf; ComponentLink1Description: http://www.mouser.com/ds/2/193/68_69-3197.pdf
footprint GSS-11-3.8-G-5x-2.54mm (Contact Probe x5)
pins: 1, 2, 3, 4, 5

## INA199A1DCKR
designator U?
CURRENT SENSE AMP, 50V/V, 80KHZ; Supplier 1: Digi-Key; Supplier Part Number 1: 296-27329-1-ND; Supplier 2: Mouser; Supplier Part Number 2: 595-INA199B1DCKT
footprint TSOP65P210X110-6N (TSOP, 6-Leads, Body 2.00x1.25mm, Pitch 0.65mm, IPC Medium Density)
pins: 1 REF, 2 GND, 3 V+, 4 IN+, 5 IN-, 6 OUT

## KPH-1608SGC
designator LED?, comment Green
LED, GREEN, 12MCD, 568NM, SMD; Supplier 1: Farnell; Supplier Part Number 1: 2426215
footprint LED-0603-GREEN
pins: A, K

## LM3490IM5-12/NOPB
designator U?  value 12v
LDO, FIXED, 12V, 0.1A, SOT-23-5; Supplier 1: Farnell; Supplier Part Number 1: 2382985
footprint SOT23-5
pins: 2 GND, 3 ON/~{OFF}, 4 Vin, 5 Vout

## LM5109BMA
designator U?
DRIVER, HALF BRIDGE, 1A PK, SOIC8
footprint SO8_N (SOIC, 8-Leads, Body 4.9x3.9mm, Pitch 1.27mm, IPC Medium Density)
pins: 1 VDD, 2 HI, 3 LI, 4 GND, 5 LO, 6 HS, 7 HO, 8 HB

## LM5109BSD/NOPB
designator U?
DRIVER, MOSFET, HALF BRIDGE, WSON-8, 1A; Supplier 1: Farnell; Supplier Part Number 1: 2400642RL; Supplier 2: Farnell; Supplier Part Number 2: 2400642; Supplier 3: Farnell; Supplier Part Number 3: 2382850
footprint SON80P400X80_HS-9N (SON, 8-Leads, Body 4.00x4.00mm, Pitch 0.80mm, Thermal Pad 3.00x2.49mm, IPC Medium Density)
pins: 1 VDD, 2 HI, 3 LI, 4 VSS, 5 LO, 6 HS, 7 HO, 8 HB, 9 Thermal Pad

## LP5907MFX-3.3/NOPB
designator U?, comment 3.3V
IC REG LDO 3.3V 0.25A SOT23-5; Manufacturer: Texas Instruments; Regulator Topology: Positive Fixed; Current - Output: 250mA; Voltage - Input: Up to 5.5V; Supplier 1: Digi-Key; Supplier Part Number 1: 296-38557-1-ND; RoHS: RoHS Compliant; Category: Integrated Circuits (ICs); Stock 1: 39845; Pricing 1: 1=0.57, 10=0.487, 100=0.3634, 500=0.28552, 1000=0.22063 (USD); Packaging: Cut Tape (CT); Part Status: Active; Voltage - Output: 3.3V; Voltage - Dropout (Typical): -; Current - Limit (Min): -; Operating Temperature: -40°C ~ 125°C; Mounting Type: Surface Mount; Package / Case: SC-74A, SOT-753; Supplier Device Package: SOT-23; ComponentLink1URL: http://www.ti.com/lit/ds/symlink/lp5907.pdf; ComponentLink1Description: http://www.ti.com/lit/ds/symlink/lp5907.pdf
footprint SOT23-5
pins: 1 Vin, 2 GND, 3 ON/~{OFF}, 4 N/C, 5 Vout

## LRMAT2512-R002FT4
designator R?  value 0.002
Shunt Resistor R002; Supplier 1: Farnell; Supplier Part Number 1: 2079420RL; Supplier 2: Farnell; Supplier Part Number 2: 2079420
footprint R 2512 [6432 Metric]
pins: 1 0, 2 0

## LTST-C190KGKT
designator LED?, comment Green  Manufacturer Part Number: LTST-C190KGKT
LED GREEN CLEAR 0603 SMD; Manufacturer: Lite-On Inc.; Lens Color: Colorless; Millicandela Rating: 35mcd; Lens Style/Size: Rectangle with Flat Top, 1.10mm x 0.80mm; Voltage - Forward (Vf) (Typ): 2V; Current - Test: 20mA; Viewing Angle: 130°; Wavelength - Dominant: 571nm; Wavelength - Peak: 574nm; Supplier 1: Digi-Key; Supplier Part Number 1: 160-1435-1-ND; RoHS: RoHS Compliant; Category: Optoelectronics; Stock: 922756; Pricing 1: 1=0.27, 10=0.196, 25=0.1448, 100=0.1034, 250=0.07032, 500=0.06204, 1000=0.0486 (USD); Packaging: Cut Tape (CT); Part Status: Active; Color: Green; Lens Transparency: Clear; Mounting Type: Surface Mount; Features: -; Package / Case: 0603 (1608 Metric); Size / Dimension: 1.60mm L x 0.80mm W; Height (Max): 0.80mm; ComponentLink1URL: http://optoelectronics.liteon.com/upload/download/DS22-2000-074/S_110_LTST-C190KGKT.pdf; ComponentLink1Description: http://optoelectronics.liteon.com/upload/download/DS22-2000-074/S_110_LTST-C190KGKT.pdf
footprint LED-0603-GREEN
pins: A, K

## M3 Hole
designator H?, comment M3
M3 Hole with no copper
footprint M3 Hole (M3 Hole with no copper)

## M3 Mounting Hole
designator J?, comment M3
M3 Mounting Hole
footprint M3 Mounting Hole
pins: 1

## M3 Spade Terminal
designator J?, comment M3
M3 Spade Terminal
footprint M3 Spade Hole
pins: 1

## MBR140SFT1G
designator D?
Rectifier Diode, Single, 40 V, 1 A, SOD-123FL, 2, 550 mV
footprint DIOM2717X10N (Molded Diode, 2-Leads, Body 2.70x1.65mm, IPC Medium Density)
pins: A, K

## MC000051
designator J?
TERMINAL BLOCK, WIRE TO BRD, 3POS, 10AWG; Supplier 1: Farnell; Supplier Part Number 1: 2008022
footprint MC000051 (TERMINAL BLOCK, WIRE TO BRD, 3POS, 10AWG)
pins: 1, 2, 3

## MC000054
designator J?
MULTICOMP Wire-To-Board Terminal Block, 2, 600 V, 30 A, 24 AWG, 10 AWG
footprint MC000054 (MULTICOMP  Wire-To-Board Terminal Block, 2, 600 V, 30 A, 24 AWG, 10 AWG)
pins: 1, 2

## MC000055
designator J?
MULTICOMP Wire-To-Board Terminal Block, 3, 600 V, 30 A, 24 AWG, 10 AWG
footprint MC000055 (Multicomp Wire-To-Board Terminal Block, 3, 600 V, 30 A, 24 AWG, 10 AWG)
pins: 1, 2, 3

## MC0063W0603134K8
designator R?  value 34.8k
RESISTOR, 34K8, 0.063W, 1%, 0603; Supplier 1: Farnell; Supplier Part Number 1: 2130982
footprint RESC1608X55N (Chip Resistor, Body 1.6x0.8mm, EIA 0603, IPC Medium Density)
pins: 1 0, 2 0

## MC0063W06031174K
designator R?  value 174k
Resistor, 174k, 0603; Supplier 1: Farnell; Supplier Part Number 1: 1171009RL; Supplier 2: Farnell; Supplier Part Number 2: 1171009
footprint RESC1608X55N (Chip Resistor, Body 1.6x0.8mm, EIA 0603, IPC Medium Density)
pins: 1 0, 2 0

## MC000232
designator J?
TERMINAL BLOCK, WIRE TO BRD, 2POS, 6AWG; Supplier 1: Farnell; Supplier Part Number 1: 2008224
footprint MC000232 (TERMINAL BLOCK, WIRE TO BRD, 2POS, 6AWG)
pins: 1, 2

## MC0603B104K160CT
designator C?  value 100nF
CAP, MLCC, X7R, 100NF, 16V, 0603; Supplier 1: Farnell; Supplier Part Number 1: 2310628; Supplier 2: Farnell; Supplier Part Number 2: 1759016RL; Supplier 3: Farnell; Supplier Part Number 3: 1759016
simulation model CAP (Capacitor)
signal-integrity model Cap
footprint 1608[0603] (Chip Capacitor, Body 1.6x0.8mm, IPC High Density)
pins: 1, 2

## MC0603B471K500CT
designator C?  value 470pF
CAP, MLCC, X7R, 470PF, 50V, 0603; Supplier 1: Farnell; Supplier Part Number 1: 1759079RL; Supplier 2: Farnell; Supplier Part Number 2: 2310617; Supplier 3: Farnell; Supplier Part Number 3: 1759079
simulation model CAP (Capacitor)
signal-integrity model Cap
footprint 1608[0603] (Chip Capacitor, Body 1.6x0.8mm, IPC High Density)
pins: 1, 2

## MC0603N100D500CT
designator C?  value 10pF
CAP, MLCC, C0G/NP0, 10PF, 50V, 0603; Supplier 1: Farnell; Supplier Part Number 1: 2408550; Supplier 2: Farnell; Supplier Part Number 2: 1759768; Supplier 3: Farnell; Supplier Part Number 3: 1759053RL; Supplier 4: Farnell; Supplier Part Number 4: 1759053
simulation model CAP (Capacitor)
signal-integrity model Cap
footprint 1608[0603] (Chip Capacitor, Body 1.6x0.8mm, IPC High Density)
pins: 1, 2

## MC0603N221J500CT
designator C?  value 220pF
CAP, MLCC, C0G/NP0, 220PF, 50V, 0603; Supplier 1: Farnell; Supplier Part Number 1: 1759071RL; Supplier 2: Farnell; Supplier Part Number 2: 2310581; Supplier 3: Farnell; Supplier Part Number 3: 1759071
simulation model CAP (Capacitor)
signal-integrity model Cap
footprint 1608[0603] (Chip Capacitor, Body 1.6x0.8mm, IPC High Density)
pins: 1, 2

## MC0603N470J500CT
designator C?  value 47pF
CAP, MLCC, C0G/NP0, 47PF, 50V, 0603; Supplier 1: Farnell; Supplier Part Number 1: 1759062
simulation model CAP (Capacitor)
signal-integrity model Cap
footprint 1608[0603] (Chip Capacitor, Body 1.6x0.8mm, IPC High Density)
pins: 1, 2

## MC0603X105K160
designator C?  value 1uF
CAP, MLCC, X5R, 1UF, 16V, 0603; Supplier 1: Farnell; Supplier Part Number 1: 2310630; Supplier 2: Farnell; Supplier Part Number 2: 1759407RL; Supplier 3: Farnell; Supplier Part Number 3: 1759407
simulation model CAP (Capacitor)
signal-integrity model Cap
footprint 1608[0603] (Chip Capacitor, Body 1.6x0.8mm, IPC High Density)
pins: 1, 2

## MC0805F106Z100CT
designator C?  value 10uF
CAP, MLCC, Y5V, 10UF, 0805; Supplier 1: Farnell; Supplier Part Number 1: 2408565; Supplier 2: Farnell; Supplier Part Number 2: 1759421; Supplier 3: Farnell; Supplier Part Number 3: 1759421RL; Supplier 4: Farnell; Supplier Part Number 4: 1760155
simulation model CAP (Capacitor)
signal-integrity model Cap
footprint CAPC2012X135N (Chip Capacitor, Body 2.0x1.2mm, EIA 0805, IPC Medium Density)
pins: 1, 2

## MC0805X226M6R3CT
designator C?  value 22uF
CAP, MLCC, X5R, 22UF, 0805; Supplier 1: Farnell; Supplier Part Number 1: 1759415RL; Supplier 2: Farnell; Supplier Part Number 2: 2408577; Supplier 3: Farnell; Supplier Part Number 3: 1759415; Supplier 4: Farnell; Supplier Part Number 4: 1760148
simulation model CAP (Capacitor)
signal-integrity model Cap
footprint CAPC2012X135N (Chip Capacitor, Body 2.0x1.2mm, EIA 0805, IPC Medium Density)
pins: 1, 2

## MC33063AQDRQ1
designator U?
DC-DC CONV, BOOST/BUCK/INVERTING, SOIC-8; Supplier 1: Farnell; Supplier Part Number 1: 2323541
footprint SO8_N (SOIC, 8-Leads, Body 4.9x3.9mm, Pitch 1.27mm, IPC Medium Density)
pins: 1 sC, 2 sE, 3 Ct, 4 GND, 5 cmp-, 6 Vcc, 7 Ipk, 8 dC

## MCMR06X1001FTL
designator R?  value 1k
RESISTOR, CERAMIC, 1K, 0.1W, 1%; Supplier 1: Farnell; Supplier Part Number 1: 2073348; Supplier 2: Farnell; Supplier Part Number 2: 2073348RL
footprint RESC1608X55N (Chip Resistor, Body 1.6x0.8mm, EIA 0603, IPC Medium Density)
pins: 1 0, 2 0

## MCMR06X1002FTL
designator R?  value 10k
Resistor, 10k, 0603; Supplier 1: Farnell; Supplier Part Number 1: 2073349; Supplier 2: Farnell; Supplier Part Number 2: 2073349RL
footprint RESC1608X06L (Chip Resistor, 2-Leads, Body 1.60x0.80mm, IPC High Density)
pins: 1 0, 2 0

## MCMR06X1602FTL
designator R?  value 16k
RESISTOR, 0603, 16K, 1%; Supplier 1: Farnell; Supplier Part Number 1: 2073400; Supplier 2: Farnell; Supplier Part Number 2: 2073400RL
footprint RESC1608X55N (Chip Resistor, Body 1.6x0.8mm, EIA 0603, IPC Medium Density)
pins: 1 0, 2 0

## MCMR06X3001FTL
designator R?  value 3k
RESISTOR, 0603, 3K, 1%, ANTI SULFUR; Supplier 1: Farnell; Supplier Part Number 1: 2073461; Supplier 2: Farnell; Supplier Part Number 2: 2073461RL
footprint RESC1608X55N (Chip Resistor, Body 1.6x0.8mm, EIA 0603, IPC Medium Density)
pins: 1 0, 2 0

## MCSDRH125B-221MHF
designator L?  value 200uH
INDUCTOR, 220µH, 20%, 2PINS; Supplier 1: Farnell; Supplier Part Number 1: 1864461
footprint Inductor 12x12mm
pins: 1, 2

## MCWR06W1R00FTL
designator R?  value 1 ohm
RES, THICK FILM, 1OHM, 1%, 0.1W; Supplier 1: Farnell; Supplier 2: Farnell; Supplier Part Number 1: 2447289; Supplier Part Number 2: 2447289RL
footprint RESC1608X55N (Chip Resistor, Body 1.6x0.8mm, EIA 0603, IPC Medium Density)
pins: 1 0, 2 0

## MCWR06X27R0FTL
designator R?  value 27 ohm
RES, THICK FILM, 27OHM, 1%, 0.1W; Supplier 1: Farnell; Supplier Part Number 1: 2447316
footprint RESC1608X55N (Chip Resistor, Body 1.6x0.8mm, EIA 0603, IPC Medium Density)
pins: 1 0, 2 0

## MCWR06X1003FTL
designator R?  value 100k
RES, THICK FILM, 100KOHM, 1%, 0.1W; Supplier 1: Farnell; Supplier Part Number 1: 2446543; Supplier 2: Farnell; Supplier Part Number 2: 2447226
footprint RESC1608X55N (Chip Resistor, Body 1.6x0.8mm, EIA 0603, IPC Medium Density)
pins: 1 0, 2 0

## MCWR06X3300FTL
designator R?  value 330ohm
RES, THICK FILM, 330 OHM, 1%, 0.1W; Supplier 1: Farnell; Supplier Part Number 1: 2446656; Supplier 2: Farnell; Supplier Part Number 2: 2447339
footprint RESC1608X06L (Chip Resistor, 2-Leads, Body 1.60x0.80mm, IPC High Density)
pins: 1 0, 2 0

## METZ CONNECT - 31059103
designator J?
TERMINAL BLOCK, PCB, 3POS, 28-16AWG
footprint METZ CONNECT - 31059103 (TERMINAL BLOCK, PCB, 3POS, 28-16AWG)
pins: 1, 2, 3

## MH_M4
designator MH?, comment M4
M4 Mounting Hole
footprint MH_M4 (Plated and viad M4 mounting hole)
pins: 1

## MOLEX  70246-1004
designator J?
HEADER, SHROUDED, 10WAY, JTAG; Supplier 1: Farnell; Supplier Part Number 1: 1392408
footprint 10P_PCB_HEADER_BRD_MNT (HEADER BRD MNT 10POS 2.54MM)
pins: 1, 2, 3, 4, 5, 6, 7, 8, 9, 10

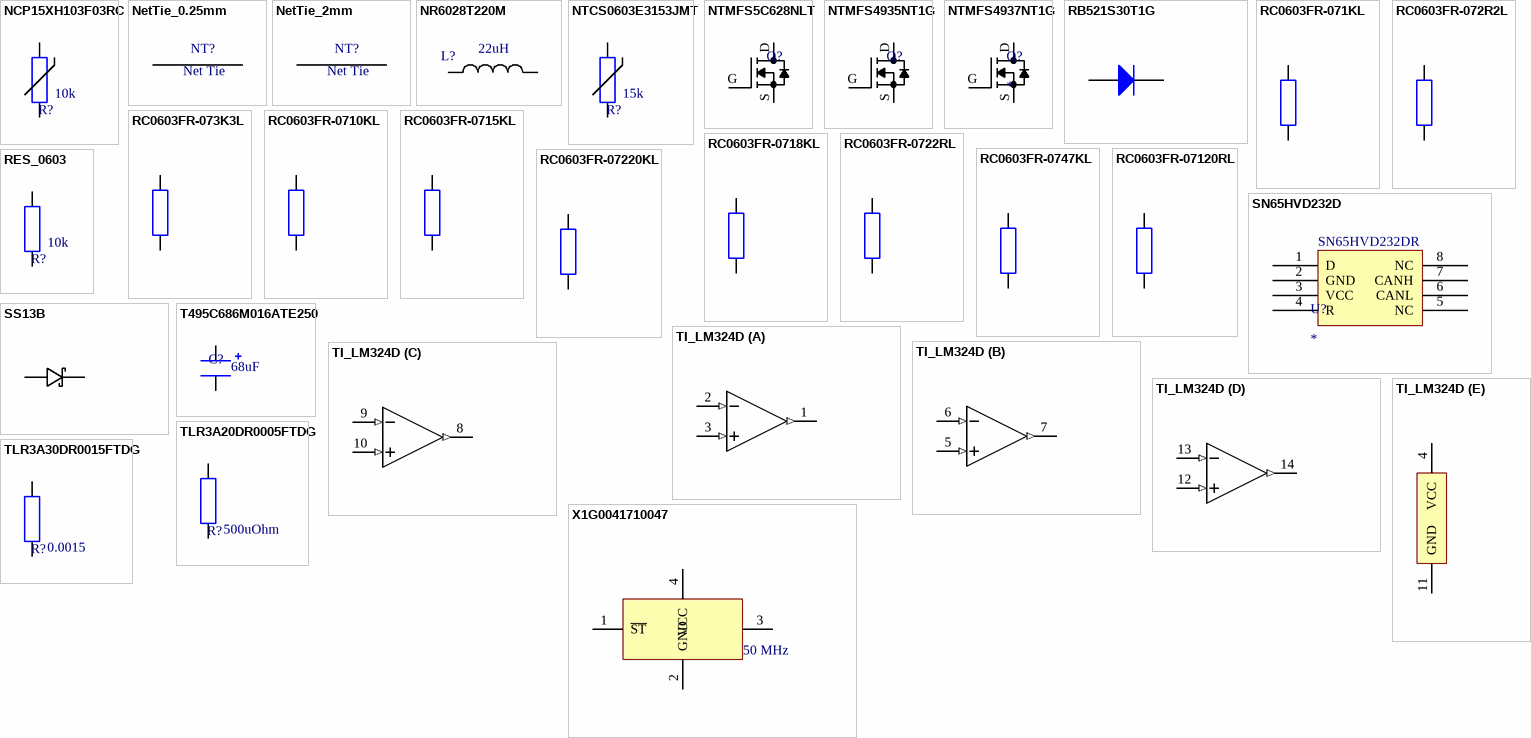
[diagram p2: symbols NCP15XH103F03RC to X1G0041710047]

## NCP15XH103F03RC
designator R?  value 10k
THERMISTOR 10K OHM NTC 0402 SMD
footprint RESC1005X40N (Chip Resistor, Body 1.0x0.5mm, EIA 0402, IPC Medium Density)
pins: 1 0, 2 0

## NetTie_0.25mm
designator NT?, comment 0.25mm  (value not drawn)  (net tie, no BOM)
footprint NetTie_0.25mm (Net tie, 0.25mm)
pins: 1, 2
text: Net Tie

## NetTie_2mm
designator NT?, comment 2mm  (value not drawn)  (net tie, no BOM)
footprint NetTie_2mm (Net tie, 2mm round)
pins: 1, 2
text: Net Tie

## NR6028T220M
designator L?  value 22uH  (hidden comment: NR6028T220M)
INDUCTOR 22UH 1.4A 175.5 MOHM
footprint INDC6060X28N (Chip Inductor, 2-Leads, Body 6.00x6.00mm, IPC Medium Density)
pins: 1, 2

## NTCS0603E3153JMT
designator R?  value 15k
THERMISTOR, 15K, 5%, SMD, NTC; Supplier 1: Farnell; Supplier Part Number 1: 2103168
footprint RESC1608X06L (Chip Resistor, 2-Leads, Body 1.60x0.80mm, IPC High Density)
pins: 1 0, 2 0

## NTMFS5C628NLT
designator Q?
MOSFET N-CH 60V SO8FL; Manufacturer: ON Semiconductor; Manufacturer Part Number: NTMFS5C628NLT1G; FET Type: N-Channel; Drive Voltage (Max Rds On,  Min Rds On): 4.5V, 10V; Vgs(th) (Max) @ Id: 2V @ 135µA; Gate Charge (Qg) (Max) @ Vgs: 52nC @ 10V; Input Capacitance (Ciss) (Max) @ Vds: 3600pF @ 25V; Vgs (Max): ±20V; Power Dissipation (Max): 3.7W (Ta), 110W (Tc); Rds On (Max) @ Id, Vgs: 2.4 mOhm @ 50A, 10V; Supplier 1: Digi-Key; Supplier Part Number 1: NTMFS5C628NLT1GOSCT-ND; RoHS: RoHS Compliant; Category: Discrete Semiconductor Products; Stock: 1490; Pricing 1: 1=1.8, 10=1.627, 100=1.3078, 500=1.01716 (USD); Packaging: Cut Tape (CT); Part Status: Active; Technology: MOSFET (Metal Oxide); Current - Continuous Drain (Id) @ 25°C: -; FET Feature: -; Operating Temperature: -55°C ~ 175°C (TJ); Mounting Type: Surface Mount; Supplier Device Package: 5-DFN (5x6) (8-SOFL); Package / Case: 8-PowerTDFN; ComponentLink1URL: http://www.onsemi.com/pub/Collateral/NTMFS5C628NL-D.PDF; ComponentLink1Description: http://www.onsemi.com/pub/Collateral/NTMFS5C628NL-D.PDF; Supplier 2: Digi-Key; Supplier Part Number 2: NTMFS5C628NLT1GOSTR-ND; Pricing 2: 1500=0.81823 (USD)
footprint SO8FL (DFN5 5x6, 1.27P  (SO-8FL)  CASE 488AA)
footprint SO8FL_FILL (DFN5 5x6, 1.27P  (SO-8FL)  CASE 488AA. Full solder paste)
pins: D, G, S

## NTMFS4935NT1G
designator Q?
MOSFET N-CH 30V 13A SO8FL; Manufacturer: ON Semiconductor; Manufacturer Part Number: NTMFS4935NT1G; FET Type: N-Channel; Current - Continuous Drain (Id) @ 25°C: 13A (Ta), 93A (Tc); Drive Voltage (Max Rds On,  Min Rds On): 4.5V, 10V; Vgs(th) (Max) @ Id: 2.2V @ 250µA; Gate Charge (Qg) (Max) @ Vgs: 49.4nC @ 10V; Input Capacitance (Ciss) (Max) @ Vds: 4850pF @ 15V; Vgs (Max): ±20V; Power Dissipation (Max): 930mW (Ta), 48W (Tc); Rds On (Max) @ Id, Vgs: 3.2 mOhm @ 30A, 10V; Supplier 1: Digi-Key; Supplier Part Number 1: NTMFS4935NT1GOSCT-ND; RoHS: RoHS Compliant; Category: Discrete Semiconductor Products; Stock 1: 932; Pricing 1: 1=0.61, 10=0.541, 100=0.4145, 500=0.3277 (USD); Packaging: Cut Tape (CT); Part Status: Active; Technology: MOSFET (Metal Oxide); Drain to Source Voltage (Vdss): 30V; FET Feature: -; Operating Temperature: -55°C ~ 150°C (TJ); Mounting Type: Surface Mount; Supplier Device Package: 5-DFN (5x6) (8-SOFL); Package / Case: 8-PowerTDFN, 5 Leads; ComponentLink1URL: http://www.onsemi.com/pub_link/Collateral/NTMFS4935N-D.PDF; ComponentLink1Description: http://www.onsemi.com/pub_link/Collateral/NTMFS4935N-D.PDF
footprint SO8FL (DFN5 5x6, 1.27P  (SO-8FL)  CASE 488AA)
footprint SO8FL_FILL (DFN5 5x6, 1.27P  (SO-8FL)  CASE 488AA. Full solder paste)
pins: D, G, S

## NTMFS4937NT1G
designator Q?
MOSFET, N CH, 30V, 70A, SO-8 FL; Supplier 1: Farnell; Supplier Part Number 1: 2317605; Supplier 2: Farnell; Supplier Part Number 2: 2317605RL
footprint SO8FL (DFN5 5x6, 1.27P  (SO-8FL)  CASE 488AA)
footprint SO8FL_FILL (DFN5 5x6, 1.27P  (SO-8FL)  CASE 488AA. Full solder paste)
pins: D, G, S

## RB521S30T1G
designator D?
DIODE, SCHOTTKY, 200MA, 30V; Supplier 1: Farnell; Supplier Part Number 1: 2317433
footprint SOD523F (SOD-523F; 2 Leads; Body 1.3 x 0.9 mm, (LxW))
pins: A, K

## RC0603FR-071KL
designator R?, comment 1k
RES SMD 1K OHM 1% 1/10W 0603; Manufacturer: Yageo; Manufacturer Part Number: RC0603FR-071KL; Power (Watts): 0.1W, 1/10W; Temperature Coefficient: ±100ppm/°C; Supplier 1: Digi-Key; Supplier Part Number 1: 311-1.00KHRCT-ND; RoHS: RoHS Compliant; Category: Resistors; Stock 1: 6734836; Pricing 1: 1=0.1, 10=0.014, 25=0.01, 100=0.0057, 250=0.00436, 500=0.00348, 1000=0.00257, 2500=0.00223 (USD); Packaging: Cut Tape (CT); Tolerance: ±1%; Composition: Thick Film; Features: Moisture Resistant; Operating Temperature: -55°C ~ 155°C; Package / Case: 0603 (1608 Metric); Supplier Device Package: 0603; Size / Dimension: 0.063" L x 0.031" W (1.60mm x 0.80mm); Height: 0.022" (0.55mm); Number of Terminations: 2; ComponentLink1URL: http://www.yageo.com/documents/recent/PYu-RC_Group_51_RoHS_L_04.pdf; ComponentLink1Description: http://www.yageo.com/documents/recent/PYu-RC_Group_51_RoHS_L_04.pdf; Resistance (Ohms): 1k
footprint RESC1608X55N (Chip Resistor, Body 1.6x0.8mm, EIA 0603, IPC Medium Density)
pins: 1 0, 2 0

## RC0603FR-072R2L
designator R?, comment 2.2R
RES SMD 2.2 OHM 1% 1/10W 0603; Manufacturer: Yageo; Manufacturer Part Number: RC0603FR-072R2L; Resistance (Ohms): 2.2; Power (Watts): 0.1W, 1/10W; Temperature Coefficient: ±200ppm/°C; Supplier 1: Digi-Key; Supplier Part Number 1: 311-2.2HRCT-ND; RoHS: RoHS Compliant; Category: Resistors; Stock 1: 16531; Pricing 1: 1=0.1, 10=0.02, 25=0.0144, 100=0.0082, 250=0.00624, 500=0.00498, 1000=0.00367, 2500=0.00319 (USD); Packaging: Cut Tape (CT); Tolerance: ±1%; Composition: Thick Film; Features: Moisture Resistant; Operating Temperature: -55°C ~ 155°C; Package / Case: 0603 (1608 Metric); Supplier Device Package: 0603; Size / Dimension: 0.063" L x 0.031" W (1.60mm x 0.80mm); Height: 0.022" (0.55mm); Number of Terminations: 2; ComponentLink1URL: http://www.yageo.com/documents/recent/PYu-RC_Group_51_RoHS_L_04.pdf; ComponentLink1Description: http://www.yageo.com/documents/recent/PYu-RC_Group_51_RoHS_L_04.pdf
footprint RESC1608X55N (Chip Resistor, Body 1.6x0.8mm, EIA 0603, IPC Medium Density)
pins: 1 0, 2 0

## RC0603FR-073K3L
designator R?, comment 3.3k
RES SMD 3.3K OHM 1% 1/10W 0603; Manufacturer: Yageo; Manufacturer Part Number: RC0603FR-073K3L; Power (Watts): 0.1W, 1/10W; Temperature Coefficient: ±100ppm/°C; Supplier 1: Digi-Key; Supplier Part Number 1: 311-3.30KHRCT-ND; RoHS: RoHS Compliant; Category: Resistors; Stock 1: 420019; Pricing 1: 1=0.1, 10=0.014, 25=0.01, 100=0.0057, 250=0.00436, 500=0.00348, 1000=0.00257, 2500=0.00223 (USD); Packaging: Cut Tape (CT); Resistance (Ohms): 3.3k; Tolerance: ±1%; Composition: Thick Film; Features: Moisture Resistant; Operating Temperature: -55°C ~ 155°C; Package / Case: 0603 (1608 Metric); Supplier Device Package: 0603; Size / Dimension: 0.063" L x 0.031" W (1.60mm x 0.80mm); Height: 0.022" (0.55mm); Number of Terminations: 2; ComponentLink1URL: http://www.yageo.com/documents/recent/PYu-RC_Group_51_RoHS_L_04.pdf; ComponentLink1Description: http://www.yageo.com/documents/recent/PYu-RC_Group_51_RoHS_L_04.pdf
footprint RESC1608X55N (Chip Resistor, Body 1.6x0.8mm, EIA 0603, IPC Medium Density)
pins: 1 0, 2 0

## RC0603FR-0710KL
designator R?, comment 10K
RES SMD 10K OHM 1% 1/10W 0603; Manufacturer: Yageo; Manufacturer Part Number: RC0603FR-0710KL; Power (Watts): 0.1W, 1/10W; Temperature Coefficient: ±100ppm/°C; Supplier 1: Digi-Key; Supplier Part Number 1: 311-10.0KHRCT-ND; RoHS: RoHS Compliant; Category: Resistors; Stock 1: 13504930; Pricing 1: 1=0.1, 10=0.014, 25=0.01, 100=0.0057, 250=0.00436, 500=0.00348, 1000=0.00257, 2500=0.00223 (USD); Packaging: Cut Tape (CT); Resistance (Ohms): 10k; Tolerance: ±1%; Composition: Thick Film; Features: Moisture Resistant; Operating Temperature: -55°C ~ 155°C; Package / Case: 0603 (1608 Metric); Supplier Device Package: 0603; Size / Dimension: 0.063" L x 0.031" W (1.60mm x 0.80mm); Height: 0.022" (0.55mm); Number of Terminations: 2; ComponentLink1URL: http://www.yageo.com/documents/recent/PYu-RC_Group_51_RoHS_L_04.pdf; ComponentLink1Description: http://www.yageo.com/documents/recent/PYu-RC_Group_51_RoHS_L_04.pdf
footprint RESC1608X55N (Chip Resistor, Body 1.6x0.8mm, EIA 0603, IPC Medium Density)
pins: 1 0, 2 0